# Altium footprint library smartcar_lib.PcbLib: 126 footprints (part 8 of 8)
Each footprint in its own frame and in the unit in brackets; x right, y up, seen from the top. Pads: shape width x height; smd on the part's side, far side on the other; paste and mask are expansions set on the pad; w line width, h text height; cw(c..) or ccw(c..) is an arc to the next point about the centre after c.
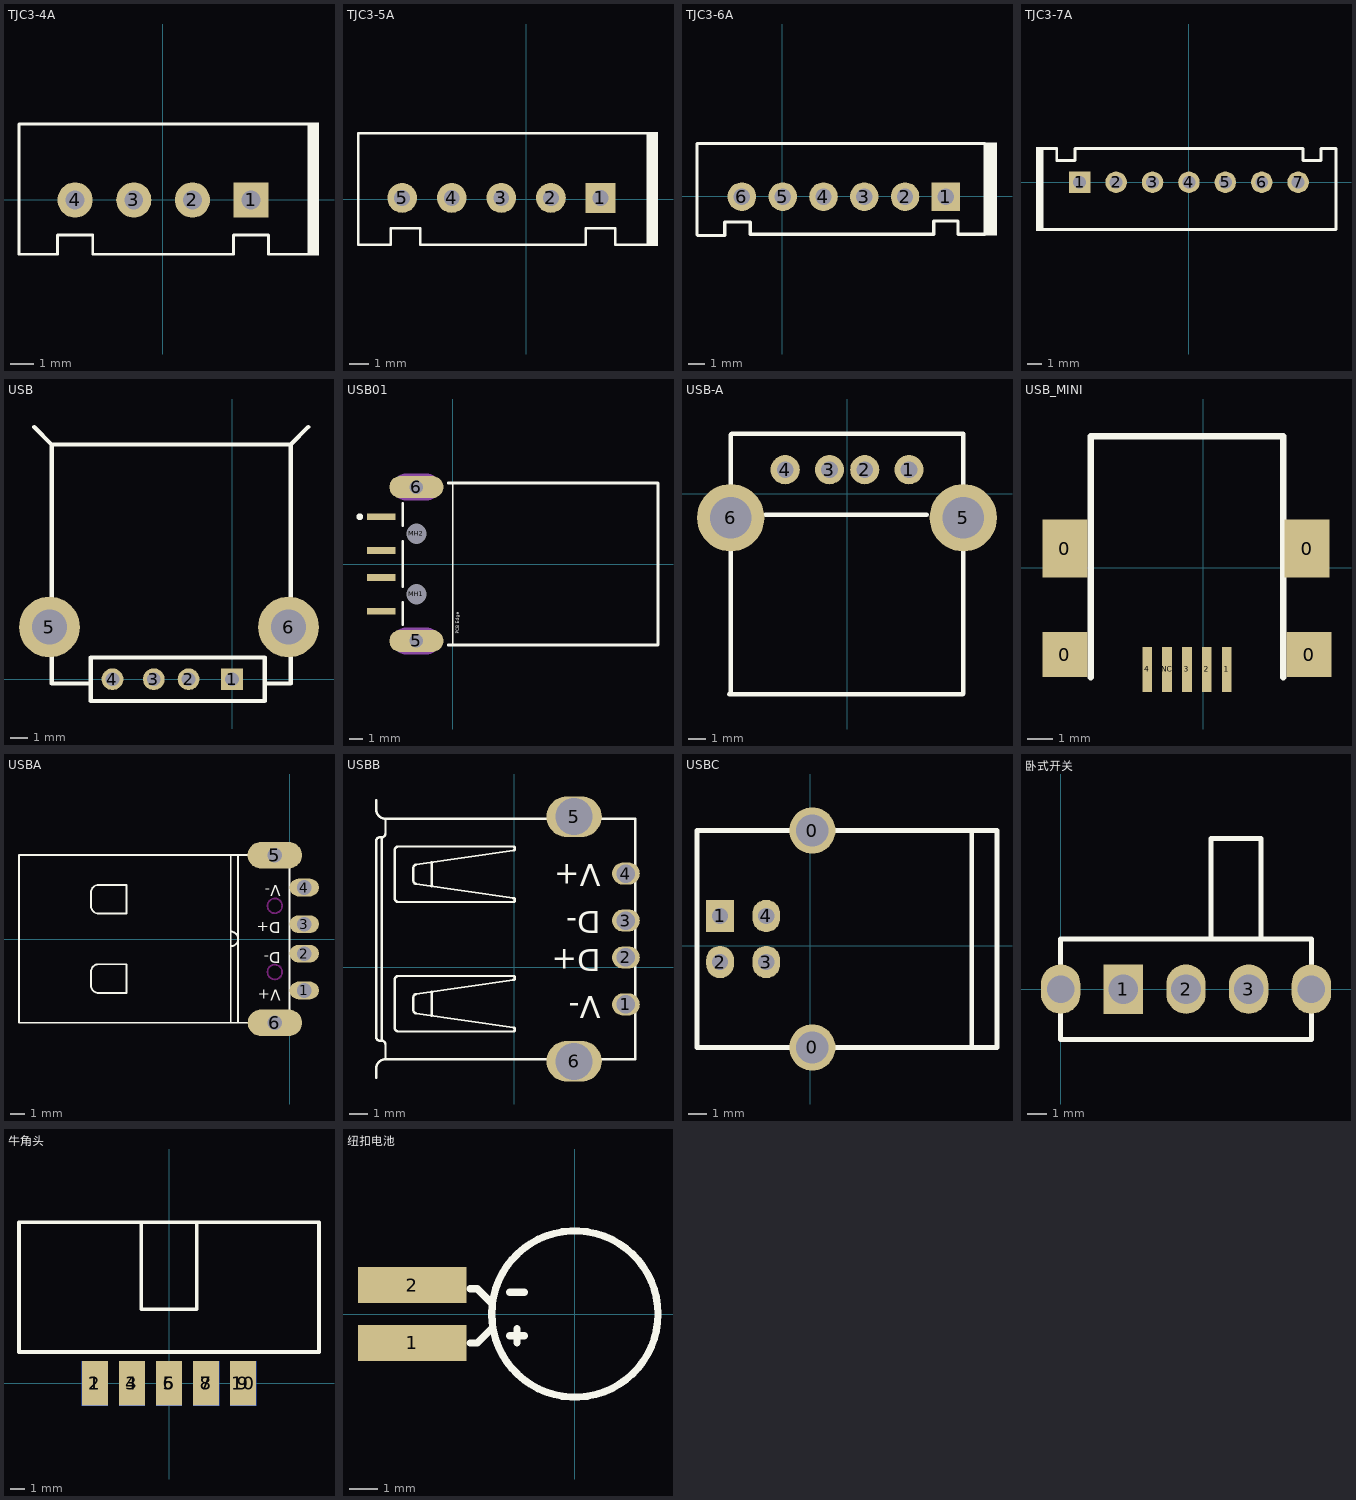
[diagram p7: the footprints below, top view; thin cyan lines are the x and y axes]

## TJC3-4A [mil]
pads (4):
  rect 60x60 hole 32: 1(150.28,0)
  round 60 hole 32: 2(50.27,0) 3(-49.73,0) 4(-149.72,0)
Top Overlay:
  rectangle: 246,-95 266,132.5
  lines w5: 245.94,-92.52 180.28,-92.52 180.28,-60 120.28,-60 120.28,-92.52 -119.72,-92.52 -119.72,-60 -179.72,-60 -179.72,-92.52 -245.4,-92.52 -245.4,129.92 245.94,129.92

## TJC3-5A [mil]
pads (5):
  rect 60x60 hole 32: 1(149.5,2.5)
  round 60 hole 32: 2(49.5,2.5) 3(-50.5,2.5) 4(-150.5,2.5) 5(-250.5,2.5)
Top Overlay:
  rectangle: 245.17,-94 265.5,134.9
  lines w5: -214,-91.5 -214,-58.98 -273.5,-58.98 -273.5,-91.5 -339.17,-91.5 -339.17,132.09 -339.5,132.42 -246.17,132.42 245.17,132.42 245.17,-90.02 ; -213,-91.5 -120.5,-91.5 119.5,-91.5 ; 119.5,-90.02 119.5,-58.98 179.5,-58.98 179.5,-91.5 245.17,-91.5

## TJC3-6A [mil]
pads (6):
  rect 70x70 hole 40: 1(400.67,-0.92)
  round 70 hole 40: 2(300.67,-0.92) 3(200.67,-0.92) 4(100.67,-0.92) 5(0.67,-0.92) 6(-99.33,-0.92)
Top Overlay:
  rectangle: 496.34,-96 526,131.5
  lines w8: -209.33,-94.92 -209.33,128.67 ; -209.33,129 5,129 496.34,129 496.34,-93.44 430.67,-93.44 430.67,-60.92 370.67,-60.92 370.67,-93.44 ; -208,-96 -141,-96 -141,-63.48 ; -140,-63 -80,-63 ; -79,-64 -79,-93 367.59,-93

## TJC3-7A [mm]
pads (7):
  rect 1.5x1.5 hole 0.9: 1(-7.62,0)
  round 1.5 hole 0.9: 2(-5.08,0) 3(-2.54,0) 4(0,0) 5(2.54,0) 6(5.08,0) 7(7.62,0)
Top Overlay:
  rectangle: -10.668,-3.404 -10.262,2.464
  lines w0.203: -10.262,-3.302 10.262,-3.302 10.262,2.362 9.22,2.362 9.22,1.524 7.95,1.524 7.95,2.362 -7.95,2.362 -7.95,1.524 -9.22,1.524 -9.22,2.362 -10.262,2.362 -10.262,-3.302

## USB [mil]
pads (6):
  rect 50x50 hole 32: 1(0,0)
  round 50 hole 32: 2(-100,0) 3(-180,0) 4(-275,0)
  round 140 hole 80: 5(-420,120) 6(130,120)
Top Overlay:
  lines w10: -455,580 -415,540 ; -325,-10 -415,-10 -415,540 ; 75,-10 135,-10 135,540 ; 175,580 135,540 ; -415,540 135,540 ; -325,-50 -325,50 75,50 75,-50 -325,-50

## USB01 [mm] "Connector; USB1.1, Type A, SM; 4 Position; Right Angle"
height 4.5
pads (8):
  rect 2.1x0.5 smd: 1(-5.3,3.5) 2(-5.3,1) 3(-5.3,-1) 4(-5.3,-3.5)
  oval 4x1.65 hole 1: 5(-2.7,-5.7) 6(-2.7,5.7)
  round 1.2 hole 1.5 unplated: MH1(-2.7,-2.25) MH2(-2.7,2.25)
Top Overlay:
  circle w0.25: c-6.9,3.5 r0.125
  lines w0.1: 0,-6 0,6
  lines w0.2: -3.7,-4.475 -3.7,-2.83 ; -3.7,-1.68 -3.7,1.68 ; -3.7,2.83 -3.7,4.475 ; -0.33,-6 15.2,-6 15.2,6 -0.33,6
  text "PCB Edge" at 0.473,-5.173 h0.25
Mechanical 1:
  lines w1: -3.45,-5.7 -1.95,-5.7 ; -3.45,5.7 -1.95,5.7
Mechanical 2:
  lines w2.016: -3.45,-5.7 -1.95,-5.7 ; -3.45,5.7 -1.95,5.7

## USB-A [mil]
pads (6):
  round 65 hole 37: 1(138,53.5) 2(39.5,53.5) 3(-39,53.5) 4(-137.6,53.5)
  round 150 hole 93: 5(259,-53.5) 6(-259,-53.5)
Top Overlay:
  lines w10: -182,-46.5 178,-46.5 ; -262,-446.5 -259,-443.5 -259,-423.5 -259,-53.5 -259,131.5 -257,133.5 259,133.5 259,-53.5 259,-445.5 258,-446.5 -262,-446.5

## USB_MINI [mil]
pads (9):
  rect 70x70 smd: 0(-215,-135) 0(165,-135)
  rect 70x90 smd: 0(-215,30) 0(162,30)
  rect 15x70 smd: 1(37,-158) 2(6,-158) 3(-25,-158) 4(-87,-158) NC(-56,-158)
Top Overlay:
  lines w10: -175,-170 -175,205 125,205 125,-170

## USBA [mm]
pads (6):
  oval 2x1.2 hole 1: 1(0.995,-3.5) 2(0.999,-0.997) 3(0.999,1.007) 4(1.002,3.5)
  oval 3.7x1.8 hole 1: 5(-1.002,5.698) 6(-0.999,-5.698)
Top Overlay:
  lines w0.127: -4.002,-5.695 -4.002,5.705 ; -4.002,-0.495 ccw(c-4.002,0.005) -4.002,0.505 ; -3.502,-5.695 -3.502,5.705 ; -2.402,-5.695 -18.402,-5.695 -18.402,5.705 -2.402,5.705 ; -0.002,-5.205 -0.002,5.215 ; -13.502,-3.17 ccw(c-13.002,-3.17) -13.002,-3.67 -11.102,-3.67 -11.102,-1.72 -13.002,-1.72 ccw(c-13.002,-2.22) -13.502,-2.22 -13.502,-3.17 ; -13.502,2.23 ccw(c-13.002,2.23) -13.002,1.73 -11.102,1.73 -11.102,3.68 -13.002,3.68 ccw(c-13.002,3.18) -13.502,3.18 -13.502,2.23
  text "D-" at -0.59,-0.625 h1.27
  text "V-" at -0.59,3.941 h1.27
  text "V+" at -0.59,-3.171 h1.27
  text "D+" at -0.59,1.401 h1.27
Keep-Out Layer:
  circle w0.127: c-1.002,2.255 r0.5
  circle w0.127: c-1.002,-2.245 r0.5
  lines w0.127: -1.902,-6.195 cw(c-1.902,-5.695) -1.902,-5.195 -0.102,-5.195 cw(c-0.102,-5.695) -0.102,-6.195 -1.902,-6.195 ; -1.902,5.205 cw(c-1.902,5.705) -1.902,6.205 -0.102,6.205 cw(c-0.102,5.705) -0.102,5.205 -1.902,5.205

## USBB [mm]
pads (6):
  oval 1.5x1.2 hole 1: 1(6.044,-2.018) 2(6.044,0.522) 3(6.044,2.522) 4(6.044,5.062)
  oval 3x2.2 hole 2: 5(3.244,8.132) 6(3.244,-5.088)
Top Overlay:
  lines w0.127: -7.456,-5.978 -7.456,-5.478 cw(c-6.956,-5.478) -6.956,-4.978 ; -7.456,9.022 -7.456,8.522 ccw(c-6.956,8.522) -6.956,8.022 ; -4.456,-2.629 -4.456,-1.328 ; -4.456,4.371 -4.456,5.672 ; 1.744,-4.978 -6.956,-4.978 ; 1.744,8.022 -6.956,8.022 ; 4.744,-4.978 6.544,-4.978 6.544,8.022 4.744,8.022 ; -7.156,-3.978 cw(c-7.156,-4.178) -6.956,-4.178 -6.956,-4.978 ; -7.156,-3.978 -7.256,-3.978 cw(c-7.256,-3.778) -7.456,-3.778 -7.456,6.822 cw(c-7.256,6.822) -7.256,7.022 -7.156,7.022 ; -7.156,-3.978 -7.156,7.022 ; -7.156,7.022 ccw(c-7.156,7.222) -6.956,7.222 -6.956,8.022 ; -6.456,-3.278 ccw(c-6.256,-3.278) -6.256,-3.478 -0.056,-3.478 ccw(c-0.056,-3.378) 0.044,-3.378 0.044,-3.365 ccw(c-0.056,-3.365) -0.042,-3.266 -5.292,-2.508 cw(c-5.256,-2.312) -5.456,-2.312 -5.456,-1.645 cw(c-5.256,-1.645) -5.292,-1.449 -0.042,-0.691 ccw(c-0.056,-0.592) 0.044,-0.592 0.044,-0.578 ccw(c-0.056,-0.578) -0.056,-0.478 -6.256,-0.478 ccw(c-6.256,-0.678) -6.456,-0.678 -6.456,-3.278 ; -6.456,3.722 ccw(c-6.256,3.722) -6.256,3.522 -0.056,3.522 ccw(c-0.056,3.622) 0.044,3.622 0.044,3.635 ccw(c-0.056,3.635) -0.042,3.734 -5.292,4.492 cw(c-5.256,4.688) -5.456,4.688 -5.456,5.355 cw(c-5.256,5.355) -5.292,5.551 -0.042,6.309 ccw(c-0.056,6.408) 0.044,6.408 0.044,6.422 ccw(c-0.056,6.422) -0.056,6.522 -6.256,6.522 ccw(c-6.256,6.322) -6.456,6.322 -6.456,3.722
  text "V+" at 4.679,5.551 h1.2
  text "V-" at 4.679,-1.561 h1.2
  text "D+" at 4.679,0.979 h1.2
  text "D-" at 4.679,3.011 h1.2

## USBC [mil]
pads (6):
  round 100 hole 70: 0(5,-220) 0(5,250)
  rect 60x70 hole 35: 1(-195,65)
  oval 60x70 hole 35: 2(-195,-35) 3(-95,-35) 4(-95,65)
Top Overlay:
  lines w10: -25,-220 -245,-220 -245,250 -25,250 ; 30,250 405,250 405,-220 35,-220 ; 350,-220 350,250

## 卧式开关 [mm]
pads (5):
  rect 2x2.5 hole 1.5: 1(3.175,0)
  oval 2x2.5 hole 1.5: 2(6.35,0) 3(9.525,0)
  oval 2x2.5 hole 1.4: ""(0,0) ""(12.7,0)
Top Overlay:
  lines w0.254: 7.62,2.54 7.62,7.62 10.16,7.62 10.16,2.54 ; 0,-2.54 0,2.54 12.7,2.54 12.7,-2.54 0,-2.54

## 牛角头 [mil]
height 47.24
pads (10):
  rect 70x120 smd: 1(-200,0) 3(-100,0) 5(0,0) 7(100,0) 9(200,0)
  rect 70x120 smd far side: 2(-200,0) 4(-100,0) 6(0,0) 8(100,0) 10(200,0)
Top Overlay:
  lines w10: -75,435 -75,200 75,200 75,435 ; -405,85 -405,435 405,435 405,85 -405,85

## 纽扣电池 [mil]
pads (2):
  rect 150x50 smd: 1(-225,-40) 2(-225,40)
Top Overlay:
  circle w10: c0,0 r115
  lines w10: -145,-40 -135,-40 -115,-20 ; -145,35 -135,35 -115,15 ; -90,-30 -70,-30 ; -90,30 -70,30 ; -80,-40 -80,-20